# EAGLE library part QUECTEL-M66 (library X893)
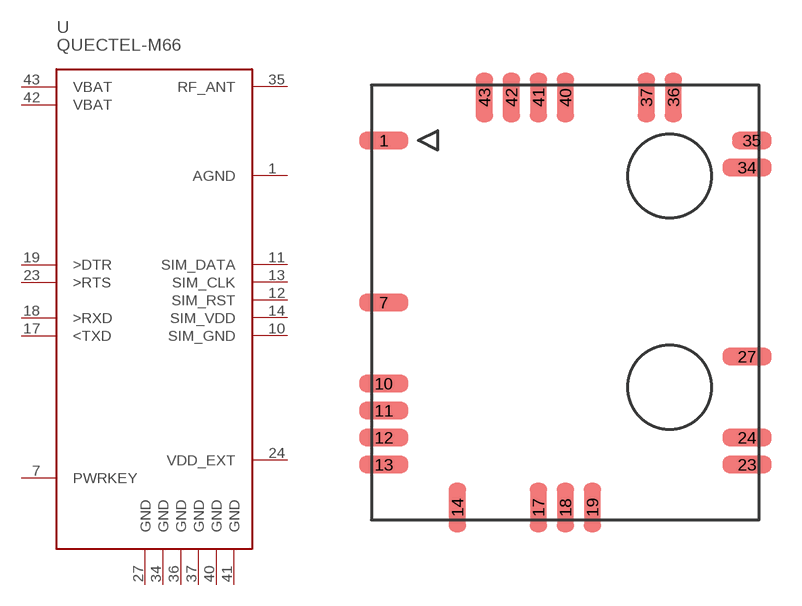
[diagram p222: symbol with the pads of QUECTEL-M66; footprint QUECTEL-M66]

Designator prefix U

## QUECTEL-M66  [QUECTEL-M66]
1  AGND  pas
7  PWRKEY  in
10  SIM_GND  pas
11  SIM_DATA
12  SIM_RST  out
13  SIM_CLK  out
14  SIM_VDD  pas
17  <TXD  out
18  >RXD  in
19  >DTR  in
23  >RTS  in
24  VDD_EXT  out
27  GND  pwr
34  GND  pwr
35  RF_ANT  pas
36  GND  pwr
37  GND  pwr
40  GND  pwr
41  GND  pwr
42  VBAT  pas
43  VBAT  pas

## Footprint QUECTEL-M66 (pad centres in mm)
Datasheet <https://www.tigal.com/download/quectel/m66/quectel_m66_hardware_design_v1.0.pdf>
smd 2 x 0.7: 1 -7.4,6.6; 7 -7.4,0; 10 -7.4,-3.3; 11 -7.4,-4.4; 12 -7.4,-5.5; 13 -7.4,-6.6; 23 7.4,-6.6; 24 7.4,-5.5; 27 7.4,-2.2; 34 7.4,5.5
smd 0.7 x 2: 14 -4.4,-8.35; 17 -1.1,-8.35; 18 0,-8.35; 19 1.1,-8.35; 36 4.4,8.35; 37 3.3,8.35; 40 0,8.35; 41 -1.1,8.35; 42 -2.2,8.35; 43 -3.3,8.35
smd 1.6 x 0.7: 35 7.6,6.6